# EAGLE library part ST662A (library open-bldc)
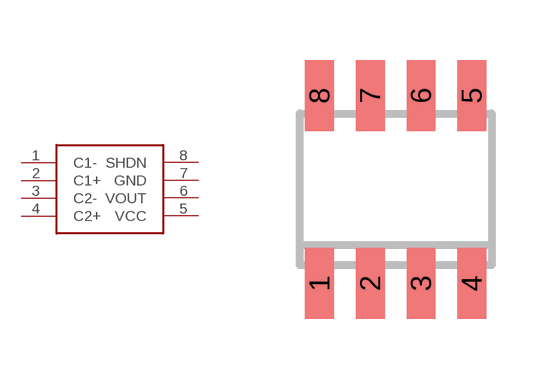
[diagram p10: symbol with the pads of SO8; footprint SO8]

Designator prefix IC

## ST662A  [SO8]
1  C1-
2  C1+
3  C2-
4  C2+
5  VCC
6  VOUT
7  GND
8  SHDN

## Footprint SO8 (pad centres in mm)
smd 0.72 x 1.78: 1 -1.905,-2.35; 2 -0.635,-2.35; 3 0.635,-2.35; 4 1.905,-2.35; 5 1.905,2.35; 6 0.635,2.35; 7 -0.635,2.35; 8 -1.905,2.35